# EAGLE library part LC4032V_XXT44 (library lattice_ispmach4000ze)
bsdliscispmach4032v44pintqfp Auto generated by make-symbol-device-package-bsdl.ulp Rev. 44 Source: bsdliscispmach4032v44pintqfp.BSM Created by: DF4IAH
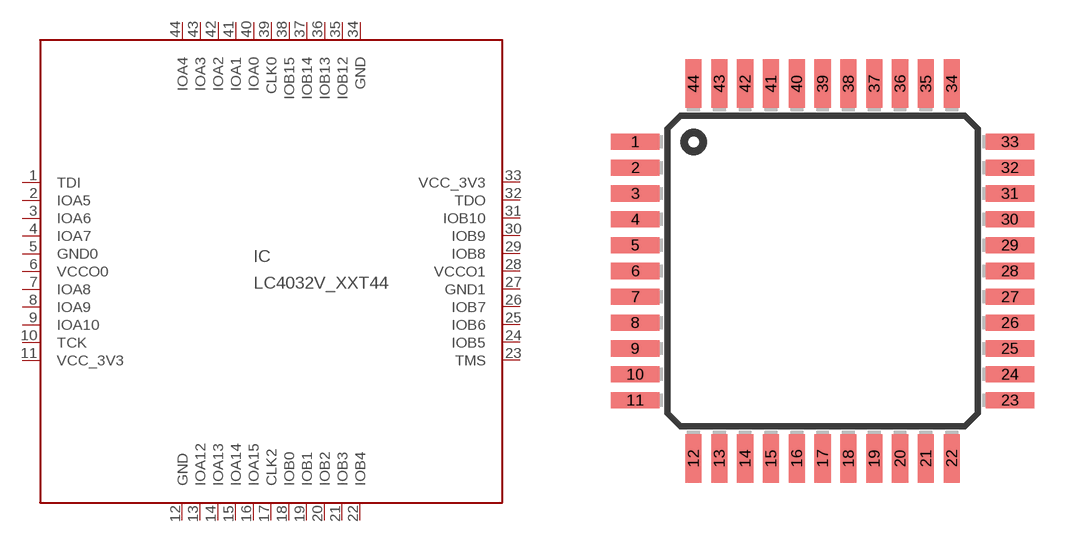
[diagram p0: symbol with the pads of TQFP44; footprint TQFP44]

Designator prefix IC

## LC4032V_XXT44  [TQFP44]
1  TDI  in
2  IOA5
3  IOA6
4  IOA7
5  GND0  pwr
6  VCCO0  pwr
7  IOA8
8  IOA9
9  IOA10
10  TCK  in
11  VCC_3V3  pwr
12  GND  pwr
13  IOA12
14  IOA13
15  IOA14
16  IOA15
17  CLK2  in
18  IOB0
19  IOB1
20  IOB2
21  IOB3
22  IOB4
23  TMS  in
24  IOB5
25  IOB6
26  IOB7
27  GND1  pwr
28  VCCO1  pwr
29  IOB8
30  IOB9
31  IOB10
32  TDO  out
33  VCC_3V3  pwr
34  GND  pwr
35  IOB12
36  IOB13
37  IOB14
38  IOB15
39  CLK0  in
40  IOA0
41  IOA1
42  IOA2
43  IOA3
44  IOA4

## Footprint TQFP44 (pad centres in mm)
Thin Quad Flat Pack package type TQ
smd 1.5 x 0.5: 1 -5.8,4; 2 -5.8,3.2; 3 -5.8,2.4; 4 -5.8,1.6; 5 -5.8,0.8; 6 -5.8,0; 7 -5.8,-0.8; 8 -5.8,-1.6; 9 -5.8,-2.4; 10 -5.8,-3.2; 11 -5.8,-4; 23 5.8,-4; 24 5.8,-3.2; 25 5.8,-2.4; 26 5.8,-1.6; 27 5.8,-0.8; 28 5.8,0; 29 5.8,0.8; 30 5.8,1.6; 31 5.8,2.4; 32 5.8,3.2; 33 5.8,4
smd 0.5 x 1.5: 12 -4,-5.8; 13 -3.2,-5.8; 14 -2.4,-5.8; 15 -1.6,-5.8; 16 -0.8,-5.8; 17 0,-5.8; 18 0.8,-5.8; 19 1.6,-5.8; 20 2.4,-5.8; 21 3.2,-5.8; 22 4,-5.8; 34 4,5.8; 35 3.2,5.8; 36 2.4,5.8; 37 1.6,5.8; 38 0.8,5.8; 39 0,5.8; 40 -0.8,5.8; 41 -1.6,5.8; 42 -2.4,5.8; 43 -3.2,5.8; 44 -4,5.8